# Altium footprint library DAC8830 EVM V4.0.PcbLib: 15 footprints
Each footprint in its own frame and in the unit in brackets; x right, y up, seen from the top. Pads: shape width x height; smd on the part's side, far side on the other; paste and mask are expansions set on the pad; w line width, h text height; cw(c..) or ccw(c..) is an arc to the next point about the centre after c.
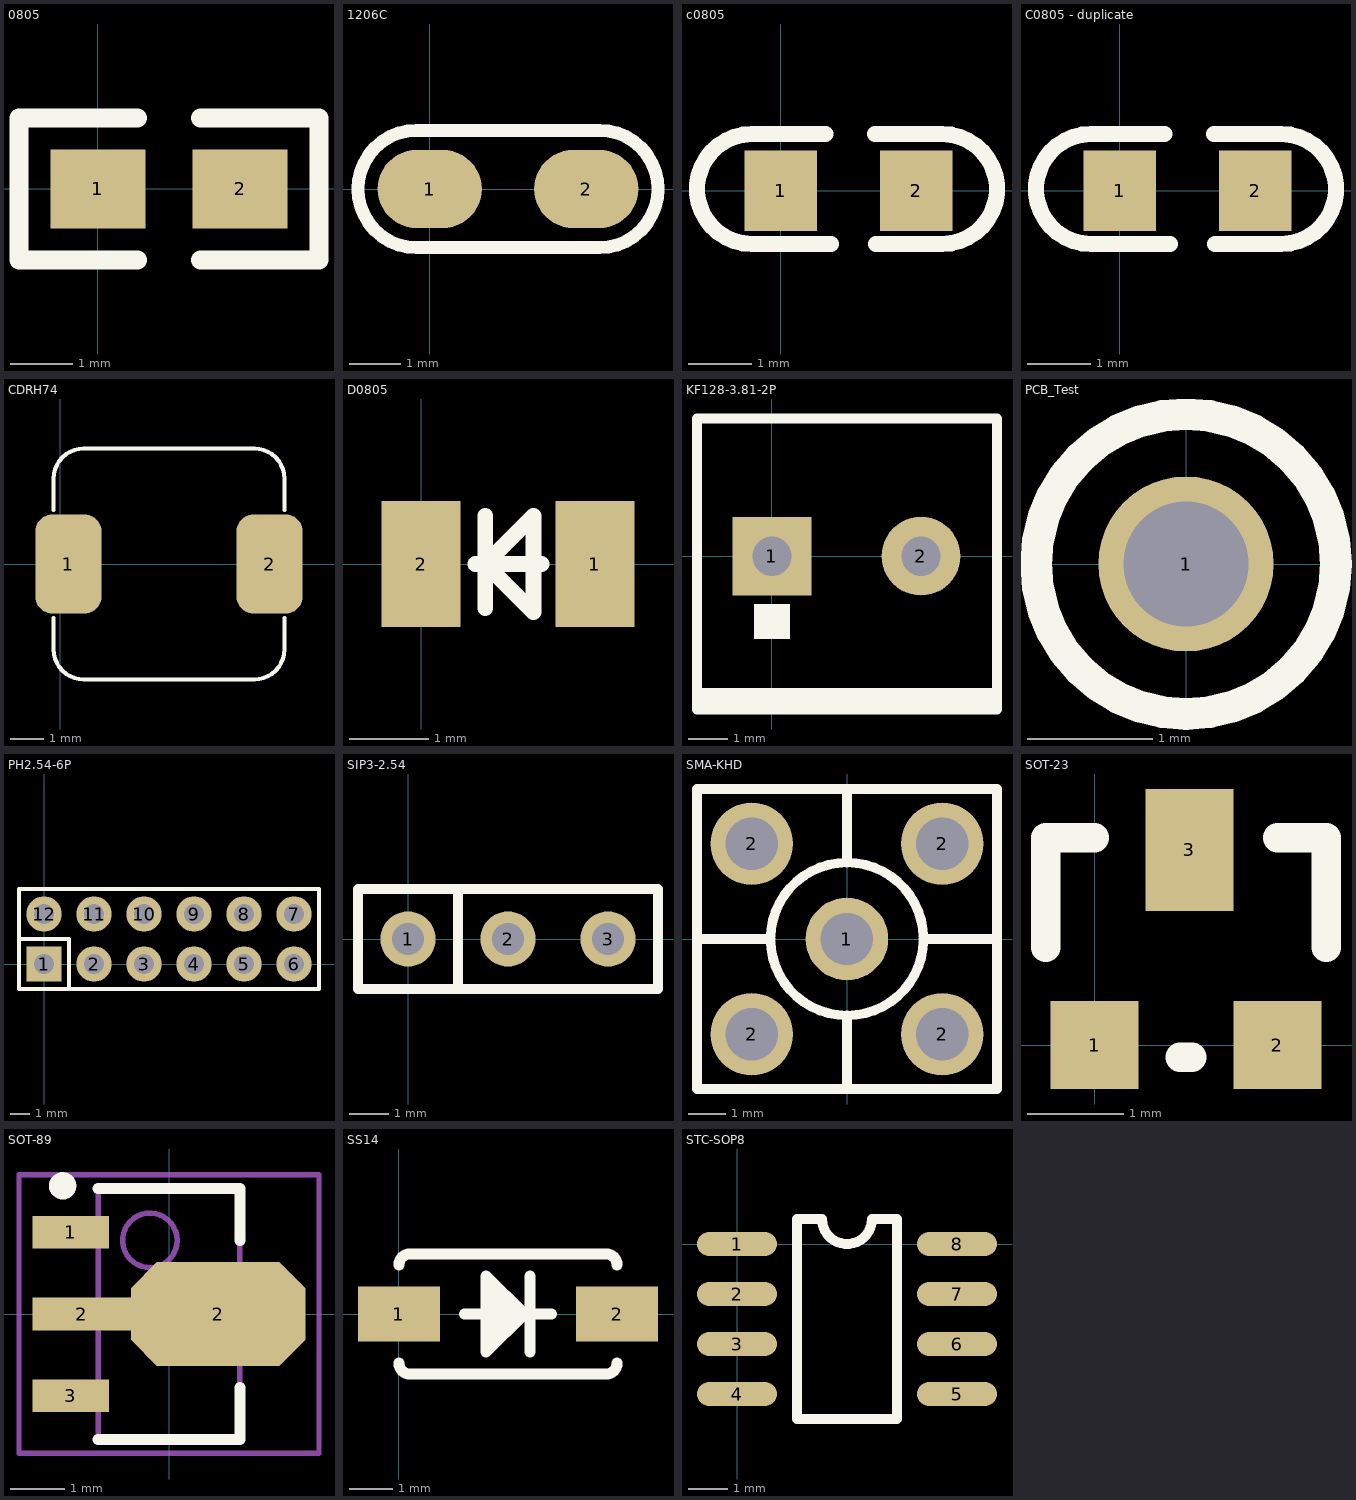
[diagram p0: the footprints below, top view; thin cyan lines are the x and y axes]

## 0805 [mil]
height 66.93
pads (2):
  rect 60x50 smd: 1(0,-0.06) 2(90,-0.06)
Top Overlay:
  lines w12: 25,-45.06 -50,-45.06 -50,44.94 25,44.94 ; 65,-45.06 140,-45.06 140,44.94 65,44.94

## 1206C [mil]
height 43.31
pads (2):
  oval 80x60 smd: 1(0,0) 2(120,0)
Top Overlay:
  lines w10: -55,0 ccw(c-10,0) -10,-45 130,-45 ccw(c130,0) 175,0 ccw(c130,0) 130,45 -10,45 ccw(c-10,0) -55,0

## c0805 [mil]
height 66.93
pads (2):
  rect 45x50 smd: 1(0,0) 2(84,0)
Top Overlay:
  lines w10: 27.74,35.26 -18,35.26 ccw(c-18,1.13) -18,-33 31,-33 ; 58.26,35.26 100,35.26 cw(c100,1.13) 100,-33 59,-33

## C0805 - duplicate [mil]
pads (2):
  rect 45x50 smd: 1(0,0) 2(84,0)
Top Overlay:
  lines w10: 27.74,35.26 -18,35.26 ccw(c-18,1.13) -18,-33 31,-33 ; 58.26,35.26 100,35.26 cw(c100,1.13) 100,-33 59,-33

## CDRH74 [mm] "7 × 7 × 4mm"
height 1.7
pads (2):
  rrect50% 2x3 smd: 1(0.25,0) 2(6.35,0)
Top Overlay:
  lines w0.127: -0.2,-1.64 -0.2,-2.591 ccw(c0.709,-2.591) 0.709,-3.5 5.891,-3.5 ccw(c5.891,-2.591) 6.8,-2.591 6.8,-1.64 ; -0.2,1.64 -0.2,2.591 cw(c0.709,2.591) 0.709,3.5 5.891,3.5 cw(c5.891,2.591) 6.8,2.591 6.8,1.64

## D0805 [mm]
height 1.7
pads (2):
  rect 1x1.6 smd: 1(2.2,0) 2(0,0)
Top Overlay:
  lines w0.2: 0.686,0 1.524,0 ; 0.813,-0.559 0.813,0.61 ; 0.813,0 1.422,-0.61 1.422,0.61 0.813,0

## KF128-3.81-2P [mm]
height 2.65
pads (2):
  rect 2x2 hole 1: 1(0,0)
  round 2 hole 1: 2(3.785,0)
Top Overlay:
  rectangle: -1.905,-3.9 5.715,-3.353
  rectangle: -0.457,-2.108 0.457,-1.219
  lines w0.254: -1.905,-3.9 5.715,-3.9 5.715,3.5 -1.905,3.5 -1.905,-3.9

## PCB_Test [mm]
height 1.7
pads (1):
  round 1.4 hole 1: 1(0,0)
Top Overlay:
  circle w0.254: c0,0 r1.2

## PH2.54-6P [mm]
pads (12):
  rect 1.8x1.8 hole 1: 1(0,0)
  round 1.8 hole 1: 2(2.54,0) 3(5.08,0) 4(7.62,0) 5(10.16,0) 6(12.7,0) 7(12.7,2.54) 8(10.16,2.54) 9(7.62,2.54) 10(5.08,2.54) 11(2.54,2.54) 12(0,2.54)
Top Overlay:
  lines w0.2: -1.27,1.27 1.27,1.27 1.27,-1.27 ; -1.27,-1.27 0,-1.27 13.97,-1.27 13.97,0 13.97,3.81 13.716,3.81 -1.27,3.81 -1.27,-1.27

## SIP3-2.54 [mm]
height 1.7
pads (3):
  round 1.4 hole 0.813: 1(0,0) 2(2.54,0) 3(5.08,0)
Top Overlay:
  lines w0.254: 1.27,-1.27 1.27,1.27 ; -1.27,-1.27 6.35,-1.27 6.35,1.27 -1.27,1.27 -1.27,-1.27

## SMA-KHD [mm]
height 2.65
pads (5):
  round 2.2 hole 1.4: 1(0,0) 2(-2.54,-2.54) 2(-2.54,2.54) 2(2.54,-2.54) 2(2.54,2.54)
Top Overlay:
  circle w0.254: c0,0 r2.04
  lines w0.254: -2.04,0 -4,0 ; 0,-2.04 0,-4 ; 0,2.04 0,4 ; 2.04,0 4,0 ; -4,0 -4,4 0,4 ; -4,0 -4,-4 0,-4 ; 0,-4 4,-4 4,0 ; 0,4 4,4 4,0

## SOT-23 [mil]
height 47.24
pads (3):
  rect 36x36 smd: 1(0,0) 2(75,0)
  rect 36x50 smd: 3(38.89,80)
Top Overlay:
  lines w12: -20,40 -20,85 0,85 ; 35,-5 40,-5 ; 75,85 95,85 95,40

## SOT-89 [mm] "SOT89, 3-Leads, Body 4.5x2.4mm (max),"
height 1.6
pads (4):
  rect 1.4x0.6 smd: 1(-1.8,1.5) 3(-1.8,-1.5)
  rect 1.8x0.6 smd: 2(-1.6,0)
  oct 3.2x1.9 smd: 2(0.9,0)
Top Overlay:
  circle w0.25: c-1.95,2.35 r0.125
  lines w0.2: -1.3,-2.3 1.3,-2.3 1.3,-1.35 ; -1.3,2.3 1.3,2.3 1.3,1.35
Mechanical 13:
  circle w0.1: c-0.35,1.35 r0.5
  lines w0.1: -1.3,-2.3 -1.3,2.3 1.3,2.3 1.3,-2.3 -1.3,-2.3
Mechanical 15:
  lines w0.1: -0.5,0 0.5,0 ; 0,-0.5 0,0.5 ; -2.75,-2.55 -2.75,2.55 2.75,2.55 2.75,-2.55 -2.75,-2.55
3D body: height 1.6, standoff 0, extent -1.3,-2.3 1.3,2.3

## SS14 [mil]
height 66.93
pads (2):
  rect 75x50 smd: 1(0,0) 2(200,0)
Top Overlay:
  lines w10: 0,-45 ccw(c10,-45) 10,-55 190,-55 ccw(c190,-45) 200,-45 ; 0,45 cw(c10,45) 10,55 190,55 cw(c190,45) 200,45 ; 60,0 140,0 ; 90,-25 90,25 ; 97.5,-17.5 100,-15 100,15 ; 120,-35 120,35 ; 80,-35 115,0 80,35 80,-35

## STC-SOP8 [mil]
height 66.93
pads (8):
  oval 80x24 smd: 1(0,0) 2(0,-50) 3(0,-100) 4(0,-150) 5(220,-150) 6(220,-100) 7(220,-50) 8(220,0)
Top Overlay:
  lines w10: 60,-175 160,-175 160,25 135,25 cw(c110,25) 85,25 60,25 60,-175